# Altium schematic symbol library Header_8P.SchLib: 1 symbol
Pins are listed as number, name and electrical type; pins without a type are passive.

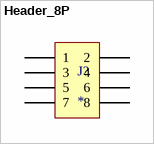
[diagram p0: symbol Header_8P]

## Header_8P
designator J?
pins: 1, 2, 3, 4, 5, 6, 7, 8